# Altium schematic symbol library UpDuino Camera Adaptor_V2.0.SCHLIB: 31 symbols
Pins are listed as number, name and electrical type; pins without a type are passive.

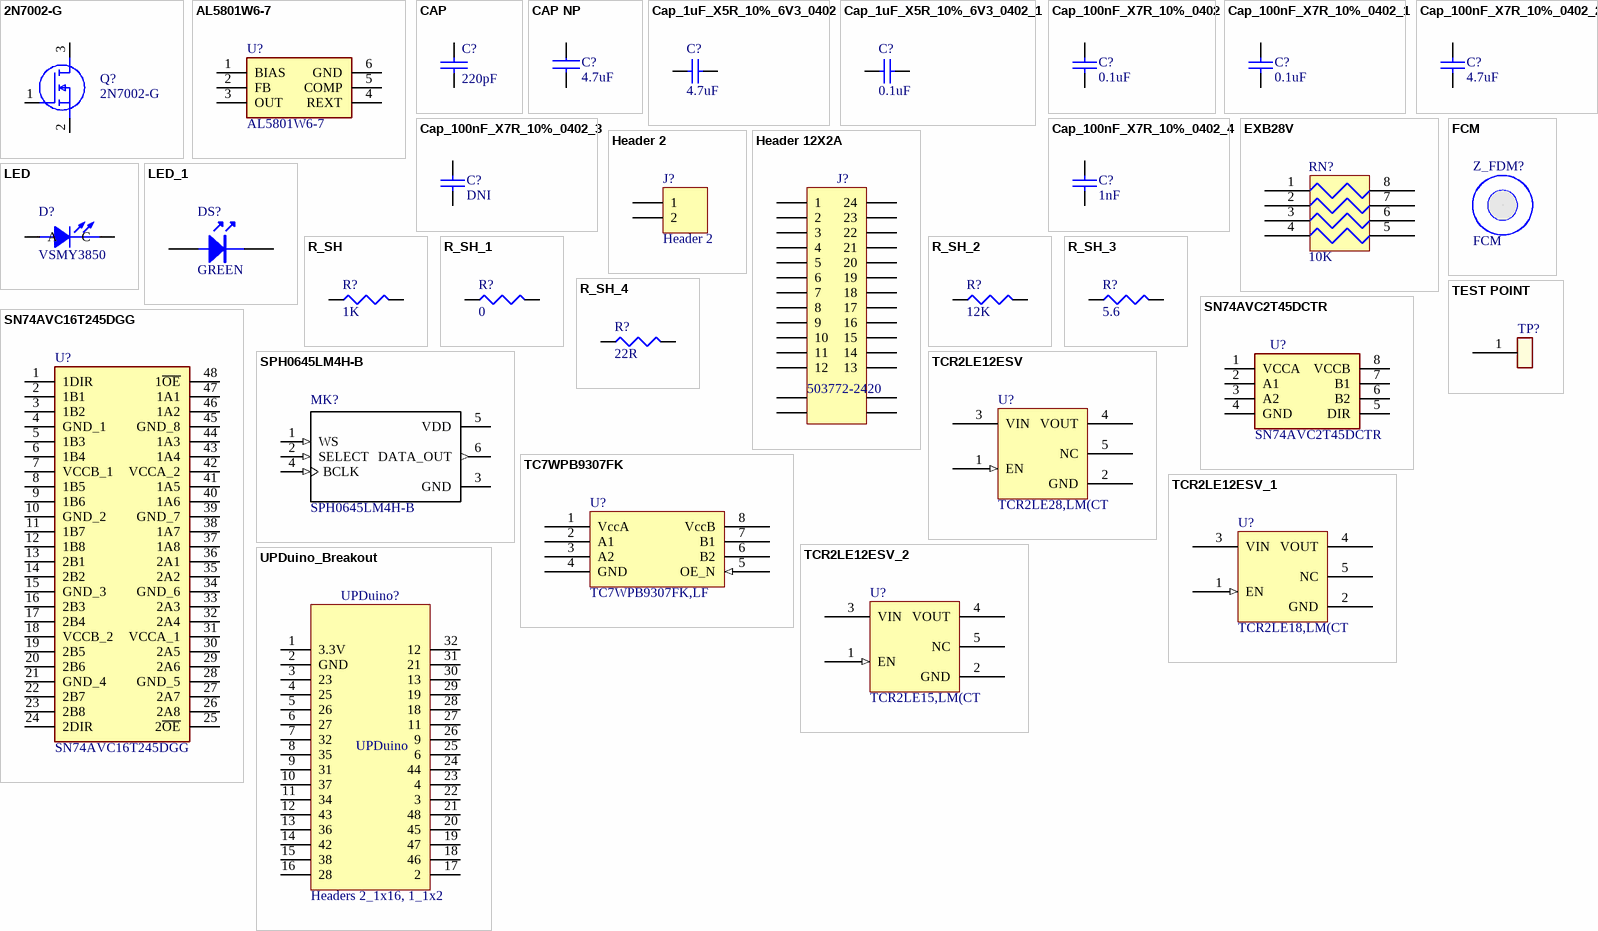
[diagram p0: symbols 2N7002-G to UPDuino_Breakout]

## 2N7002-G
designator Q?
MOSFET (N-Channel); Manufacturer_Name: Comchip Technology; Datasheet Link: http://www.comchiptech.com/admin/files/product/2N7002-G%20RevB201450.pdf; Height: 1.25mm; Manufacturer_Part_Number: 2N7002-G; Mouser Part Number: 750-2N7002-G; Mouser Price/Stock: https://www.mouser.com/Search/Refine.aspx?Keyword=750-2N7002-G
footprint SOT95P240X125-3N
footprint SOT23-3 (SOT23, 3-Leads, Body 3.0x2.6mm (max), Pitch 0.95mm, IPC Medium Density)
pins: 1 G, 2 S, 3 D

## AL5801W6-7
designator U?
Integrated Circuit; Manufacturer_Name: Diodes Inc.; Datasheet Link: http://uk.rs-online.com/web/p/products/1222913; Height: 1.3mm; Manufacturer_Part_Number: AL5801W6-7; Mouser Part Number: 621-AL5801W6-7; Mouser Price/Stock: https://www.mouser.com/Search/Refine.aspx?Keyword=621-AL5801W6-7; RS Part Number: 8228732P; RS Price/Stock: http://uk.rs-online.com/web/p/products/8228732P
footprint SOT95P285X130-6N
footprint SOT-23-6-(SSOT-6)
pins: 1 BIAS, 2 FB, 3 OUT, 4 REXT, 5 COMP, 6 GND

## CAP
designator C?, comment 220pF
CAP CER 470PF 50V 5% NP0 0402; Manufacturer: Murata Electronics; Part #: E-CAP-023; ManType: GRM1555C1H471JA01D; Digikey: 490-1297-1-ND; Price 100: 0.03250; Emcraft #: E-CAP-023; Price 1000: 0.0066; Price 5000: 0.0055; Package: 0402
footprint CAPC1005N
footprint CAPC1608N
footprint CAPC2012N
footprint CAPC3216N
footprint CAPC1005X60N
footprint CAPC100X50X60L25N
footprint C0603
pins: 1, 2

## CAP NP
designator C?, comment 4.7uF
4.7 uF 6.3V X5R; ManType: C1005X5R0J104K; Digikey: 445-1266-1-ND
footprint CAPC1608N
footprint CAPC1005N
footprint CAPC1005X60N
footprint 0603C
footprint C0603
pins: 1, 2

## Cap_1uF_X5R_10%_6V3_0402
designator C?, comment 4.7uF
Manufacturer: Samsung; Part #: E-CAP-042; ManType: CL05A105MP5NNNC; Digikey: 1276-1448-1-ND; Package: 0402
footprint C0402
footprint CAPC100X50X60L25N
footprint C0603
pins: 1, 2

## Cap_1uF_X5R_10%_6V3_0402_1
designator C?, comment 0.1uF
Manufacturer: Samsung; Part #: E-CAP-042; ManType: CL05A105MP5NNNC; Digikey: 1276-1448-1-ND; Package: 0402
footprint C0402
footprint CAPC100X50X60L25N
footprint C0603
pins: 1, 2

## Cap_100nF_X7R_10%_0402
designator C?, comment 0.1uF
CAP CER 0.1UF 6.3V X5R 0402; Manufacturer: TDK; Part #: E-CAP-003; ManType: C1005X5R0J104K; Digikey: 445-1266-1-ND; Package: 0402
footprint C0402
footprint CAPC100X50X60L25N
footprint C0603
pins: 1, 2

## Cap_100nF_X7R_10%_0402_1
designator C?, comment 0.1uF
CAP CER 0.1UF 6.3V X5R 0603; Manufacturer: TDK; Part #: E-CAP-003; ManType: C1005X5R0J104K; Digikey: 445-1266-1-ND; Package: 0402
footprint C0402
footprint CAPC100X50X60L25N
footprint C0603
pins: 1, 2

## Cap_100nF_X7R_10%_0402_2
designator C?, comment 4.7uF
CAP CER 0.1UF 6.3V X5R 0402; Manufacturer: TDK; Part #: E-CAP-003; ManType: C1005X5R0J104K; Digikey: 445-1266-1-ND; Package: 0402
footprint C0402
footprint CAPC100X50X60L25N
footprint C0603
pins: 1, 2

## Cap_100nF_X7R_10%_0402_3
designator C?, comment DNI
CAP CER 0.1UF 6.3V X5R 0402; Manufacturer: TDK; Part #: E-CAP-003; ManType: C1005X5R0J104K; Digikey: 445-1266-1-ND; Package: 0402
footprint C0402
footprint CAPC100X50X60L25N
footprint C0603
pins: 1, 2

## Cap_100nF_X7R_10%_0402_4
designator C?, comment 1nF
CAP CER 0.1UF 6.3V X5R 0402; Manufacturer: TDK; Part #: E-CAP-003; ManType: C1005X5R0J104K; Digikey: 445-1266-1-ND; Package: 0402
footprint C0402
footprint CAPC100X50X60L25N
footprint C0603
pins: 1, 2

## EXB28V
designator RN?, comment 10K
Resistors pack 2010 (0804 imperial) convex; Package: 0804
footprint RESCAXS50P100X200X45-8NA (2 Side, Convex)
footprint RN4(0402)
pins: 1, 2, 3, 4, 5, 6, 7, 8

## FCM
designator Z_FDM?
footprint FID100X250N
pins: 1

## Header 2
designator J?
Header, 2-Pin; LatestRevisionDate: 17-Jul-2002; LatestRevisionNote: Re-released for DXP Platform.; Publisher: Altium Limited
footprint HDR1X2 (Connector; Header; 2 Position)
signal-integrity model Connector
footprint HDR1X02_FEMALE
pins: 1, 2

## Header 12X2A
designator J?, comment 503772-2420
Header, 12-Pin, Dual row; Manufacturer: Amphenol FCI; Manufacturer Part Number: SFV24R-3STE1HLF; Actuator Material: Glass,Polyphenylene; Voltage Rating: 50V; Current Rating: 500mA; Number of Positions: 24; Contact Location: Bottom; Insulation Resistance: 100MR; Pitch: 0.02inch; LatestRevisionDate: 17-Jul-2002; LatestRevisionNote: Re-released for DXP Platform.; Publisher: Altium Limited; Supplier 1: Mouser; Supplier Part Number 1: 649-SFV24R-3STE1HLF; Stock 1: 6000; Pricing 1: 1=0.41, 10=0.288, 50=0.288, 100=0.276, 1000=0.198, 10000=0.158 (USD); Mount: Surface Mount; Contact Material: Bronze; Contact Plating: Tin; Housing Material: Polymer; Min Operating Temperature: -55°C; Max Operating Temperature: 105°C; Package Quantity: 3000; Packaging: Tape and Reel; Termination: Solder; Flammability Rating: UL94 V-0; ComponentLink1URL: http://portal.fciconnect.com/Comergent//fci/drawing/10117319.pdf?src-supplier=Digi-Key; ComponentLink1Description: http://portal.fciconnect.com/Comergent//fci/drawing/10117319.pdf?src-supplier=Digi-Key
signal-integrity model Connector
footprint 503772-2410
footprint MOLEX-5037722410_MOLEX
pins: 1, 2, 3, 4, 5, 6, 7, 8, 9, 10, 11, 12, 13, 14, 15, 16, 17, 18, 19, 20, 21, 22, 23, 24, GND1, GND2, GND3, GND4

## LED
designator D?, comment VSMY3850
EMITTER IR 850NM 70MA 3.20MM SMD; Manufacturer: OSRAM Opto Semiconductors Inc.; Manufacturer Part Number: VSMY12850; ManType: SFH 4253-Z; Viewing Angle: 80°; Forward Current: 20mA; Forward Voltage: 1.4V; Rise Time: 10ns; Touchscreen: Infrared (IR); DigiKey: 475-2868-1-ND; Part #: *; Supplier 1: Avnet; Stock 1: 0; Pricing 1: 1=0.404 (USD); Mount: Surface Mount; Case/Package: 1206; Case Code (Metric): 3216; Case Code (Imperial): 1206; Min Operating Temperature: -40°C; Max Operating Temperature: 85°C; Packaging: Cut Tape; Wavelength: 850nm; Orientation: Top View; REACH SVHC: Unknown; Lead Free: Lead Free
footprint vsmy12850
footprint PLCC-2 (3.5 x 2.8 x 1.75)
pins: A, C

## LED_1
designator DS?, comment GREEN
Avago HSMG-C170; Manufacturer: Avago Technologies US Inc.; Part #: E-MISC-005; ManType: HSMG-C170; Digikey: 516-1434-1-ND; Price 100: 0.21200; Package: 0805
footprint LED
footprint LED2012N
footprint LED2012N
footprint LED2012N
footprint LED_0603_12 (Blue 470nm LED Indication - Discrete 2.85V 0603 (1608 Metric))
footprint LED_0603_12 (Blue 470nm LED Indication - Discrete 2.85V 0603 (1608 Metric))
pins: 1, 2

## R_SH
designator R?, comment 1K
RESISTOR TF 270 OHM 1% 0.0625W 0402; Manufacturer: Stackpole Electronics Inc; Part #: E-RES-008; ManType: RMCF0402FT270R; Digikey: RMCF0402FT270RCT-ND; Price 100: 0.01050; Package: 0402
footprint RESC1608N
footprint RESC1005N
footprint RESC1005X40N
footprint 0603C
footprint R0603
pins: 1, 2

## R_SH_1
designator R?, comment 0
RESISTOR TF 270 OHM 1% 0.0625W 0402; Manufacturer: Stackpole Electronics Inc; Part #: E-RES-008; ManType: RMCF0402FT270R; Digikey: RMCF0402FT270RCT-ND; Price 100: 0.01050; Package: 0402
footprint RESC1608N
footprint RESC1005N
footprint RESC1005X40N
footprint 0603C
footprint R0603
pins: 1, 2

## R_SH_2
designator R?, comment 12K
RESISTOR TF 270 OHM 1% 0.0625W 0402; Manufacturer: Stackpole Electronics Inc; Part #: E-RES-008; ManType: RMCF0402FT270R; Digikey: RMCF0402FT270RCT-ND; Price 100: 0.01050; Package: 0402
footprint RESC1608N
footprint RESC1005N
footprint RESC1005X40N
footprint 0603C
footprint R0603
pins: 1, 2

## R_SH_3
designator R?, comment 5.6
RESISTOR TF 270 OHM 1% 0.0625W 0402; Manufacturer: Stackpole Electronics Inc; Part #: E-RES-008; ManType: RMCF0402FT270R; Digikey: RMCF0402FT270RCT-ND; Price 100: 0.01050; Package: 0402
footprint RESC1608N
footprint RESC1005N
footprint RESC1005X40N
footprint 0603C
footprint R0603
pins: 1, 2

## R_SH_4
designator R?, comment 22R
RESISTOR TF 270 OHM 1% 0.0625W 0402; Manufacturer: Stackpole Electronics Inc; Part #: E-RES-008; ManType: RMCF0402FT270R; Digikey: RMCF0402FT270RCT-ND; Price 100: 0.01050; Package: 0402
footprint RESC1608N
footprint RESC1005N
footprint RESC1005X40N
footprint 0603C
footprint R0603
pins: 1, 2

## SN74AVC2T45DCTR
designator U?
Integrated Circuit; Manufacturer_Name: Texas Instruments; Datasheet Link: http://www.ti.com/lit/ds/symlink/sn74avc2t45.pdf; Height: 1.3mm; Manufacturer_Part_Number: SN74AVC2T45DCTR; Mouser Part Number: 595-SN74AVC2T45DCTR; Mouser Price/Stock: https://www.mouser.com/Search/Refine.aspx?Keyword=595-SN74AVC2T45DCTR; RS Part Number: 8253432P; RS Price/Stock: http://uk.rs-online.com/web/p/products/8253432P
footprint SOP65P400X130-8N
footprint MSOP-8(2.95x2.80) (SN74AVC2T45DCT-SM8)
pins: 1 VCCA (power), 2 A1, 3 A2, 4 GND (power), 5 DIR, 6 B2, 7 B1, 8 VCCB (power)

## SN74AVC16T245DGG
designator U?
Integrated Circuit; Manufacturer_Name: Texas Instruments; Datasheet Link: https://www.ti.com/lit/ds/symlink/sn74avc16t245.pdf; Height: 1.2mm; Manufacturer_Part_Number: SN74AVC16T245DGG; Mouser Part Number: 595-SN74AVC16T245DG; Mouser Price/Stock: https://www.mouser.com/Search/Refine.aspx?Keyword=595-SN74AVC16T245DG
footprint SOP50P810X120-48N
footprint TSSOP-48
pins: 1 1DIR, 2 1B1, 3 1B2, 4 GND_1, 5 1B3, 6 1B4, 7 VCCB_1, 8 1B5, 9 1B6, 10 GND_2, 11 1B7, 12 1B8, 13 2B1, 14 2B2, 15 GND_3, 16 2B3, 17 2B4, 18 VCCB_2, 19 2B5, 20 2B6, 21 GND_4, 22 2B7, 23 2B8, 24 2DIR, 25 2~{OE}, 26 2A8, 27 2A7, 28 GND_5, 29 2A6, 30 2A5, 31 VCCA_1, 32 2A4, 33 2A3, 34 GND_6, 35 2A2, 36 2A1, 37 1A8, 38 1A7, 39 GND_7, 40 1A6, 41 1A5, 42 VCCA_2, 43 1A4, 44 1A3, 45 GND_8, 46 1A2, 47 1A1, 48 1~{OE}

## SPH0645LM4H-B
designator MK?
Mic Mems Digital I2s Omni -26db; MFR: Knowles; Package: SIP-7 Bourns; MFR Part No.: SPH0645LM4H-B; Digi-Key_Purchase_URL: https://www.digikey.com/product-detail/en/knowles/SPH0645LM4H-B/423-1405-1-ND/5332432?utm_source=snapeda&utm_medium=aggregator&utm_campaign=symbol; Digi-Key_Part_Number: 423-1405-1-ND; SnapEDA_Link: https://www.snapeda.com/parts/SPH0645LM4H-B/Knowles/view-part/?ref=snap; Value: *
footprint *MIC_SPH0645LM4H-B
pins: 1 WS (in), 2 SELECT (in), 3 GND (power), 4 BCLK (in), 5 VDD (power), 6 DATA_OUT (out)

## TC7WPB9307FK
designator U?, comment TC7WPB9307FK,LF
Dual bidirectional level translator
footprint SSOP8-P-0.50A
footprint SSOP8-P-0.50A
pins: 1 VccA (power), 2 A1, 3 A2, 4 GND (power), 5 OE_N (in), 6 B2, 7 B1, 8 VccB (power)

## TCR2LE12ESV
designator U?, comment TCR2LE28,LM(CT
footprint SOT-553
footprint SOT-553
pins: 1 EN (in), 2 GND (power), 3 VIN (power), 4 VOUT (power), 5 NC

## TCR2LE12ESV_1
designator U?, comment TCR2LE18,LM(CT
footprint SOT-553
footprint SOT-553
pins: 1 EN (in), 2 GND (power), 3 VIN (power), 4 VOUT (power), 5 NC

## TCR2LE12ESV_2
designator U?, comment TCR2LE15,LM(CT
footprint SOT-553
footprint SOT-553
pins: 1 EN (in), 2 GND (power), 3 VIN (power), 4 VOUT (power), 5 NC

## TEST POINT
designator TP?  (value not drawn)
footprint TP-R20
footprint TP-D1.2_H0.6MM
footprint TP_SMD_D1 (Test Point_D1MM)
pins: 1

## UPDuino_Breakout
designator UPDuino?, comment Headers 2_1x16, 1_1x2
UPDuino Breakout Headers; MFR Part No.: HWS15774, HWS15768; MFR: Phoenix contact; LatestRevisionDate: 17-Jul-2002; LatestRevisionNote: Re-released for DXP Platform.
signal-integrity model Connector
footprint UPDuino
footprint UPDuino-SMD
pins: 1 3.3V, 2 GND, 3 23, 4 25, 5 26, 6 27, 7 32, 8 35, 9 31, 10 37, 11 34, 12 43, 13 36, 14 42, 15 38, 16 28, 17 2, 18 46, 19 47, 20 45, 21 48, 22 3, 23 4, 24 44, 25 6, 26 9, 27 11, 28 18, 29 19, 30 13, 31 21, 32 12
text: UPDuino